# EAGLE library part YM2148 (library ym2148)
SFG YM2148
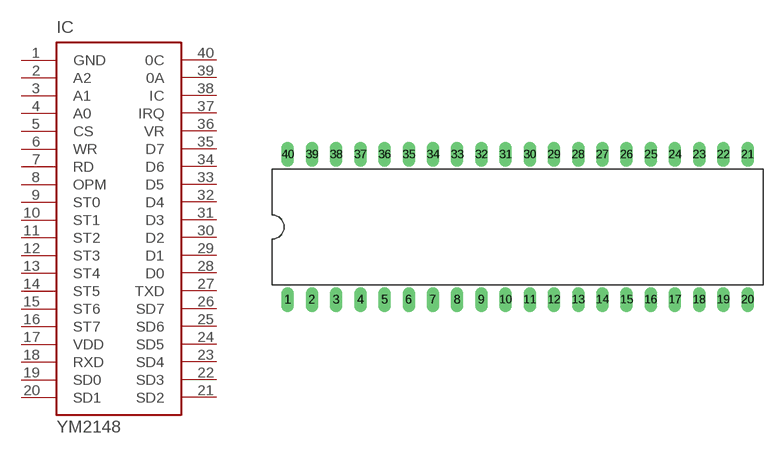
[diagram p0: symbol with the pads of DIL40; footprint DIL40]

Designator prefix IC

## YM2148  [DIL40]
1  GND
2  A2
3  A1
4  A0
5  CS
6  WR
7  RD
8  OPM
9  ST0
10  ST1
11  ST2
12  ST3
13  ST4
14  ST5
15  ST6
16  ST7
17  VDD
18  RXD
19  SD0
20  SD1
21  SD2
22  SD3
23  SD4
24  SD5
25  SD6
26  SD7
27  TXD
28  D0
29  D1
30  D2
31  D3
32  D4
33  D5
34  D6
35  D7
36  VR
37  IRQ
38  IC
39  0A
40  0C

## Footprint DIL40 (pad centres in mm)
Dual In Line package type P
drill 0.813 long: 1 -24.13,-7.62; 2 -21.59,-7.62; 3 -19.05,-7.62; 4 -16.51,-7.62; 5 -13.97,-7.62; 6 -11.43,-7.62; 7 -8.89,-7.62; 8 -6.35,-7.62; 9 -3.81,-7.62; 10 -1.27,-7.62; 11 1.27,-7.62; 12 3.81,-7.62; 13 6.35,-7.62; 14 8.89,-7.62; 15 11.43,-7.62; 16 13.97,-7.62; 17 16.51,-7.62; 18 19.05,-7.62; 19 21.59,-7.62; 20 24.13,-7.62; 21 24.13,7.62; 22 21.59,7.62; 23 19.05,7.62; 24 16.51,7.62; 25 13.97,7.62; 26 11.43,7.62; 27 8.89,7.62; 28 6.35,7.62; 29 3.81,7.62; 30 1.27,7.62; 31 -1.27,7.62; 32 -3.81,7.62; 33 -6.35,7.62; 34 -8.89,7.62; 35 -11.43,7.62; 36 -13.97,7.62; 37 -16.51,7.62; 38 -19.05,7.62; 39 -21.59,7.62; 40 -24.13,7.62